# Altium footprint library Connector_Molex.PcbLib: 815 footprints (part 16 of 51)
Each footprint in its own frame and in the unit in brackets; x right, y up, seen from the top. Pads: shape width x height; smd on the part's side, far side on the other; paste and mask are expansions set on the pad; w line width, h text height; cw(c..) or ccw(c..) is an arc to the next point about the centre after c.
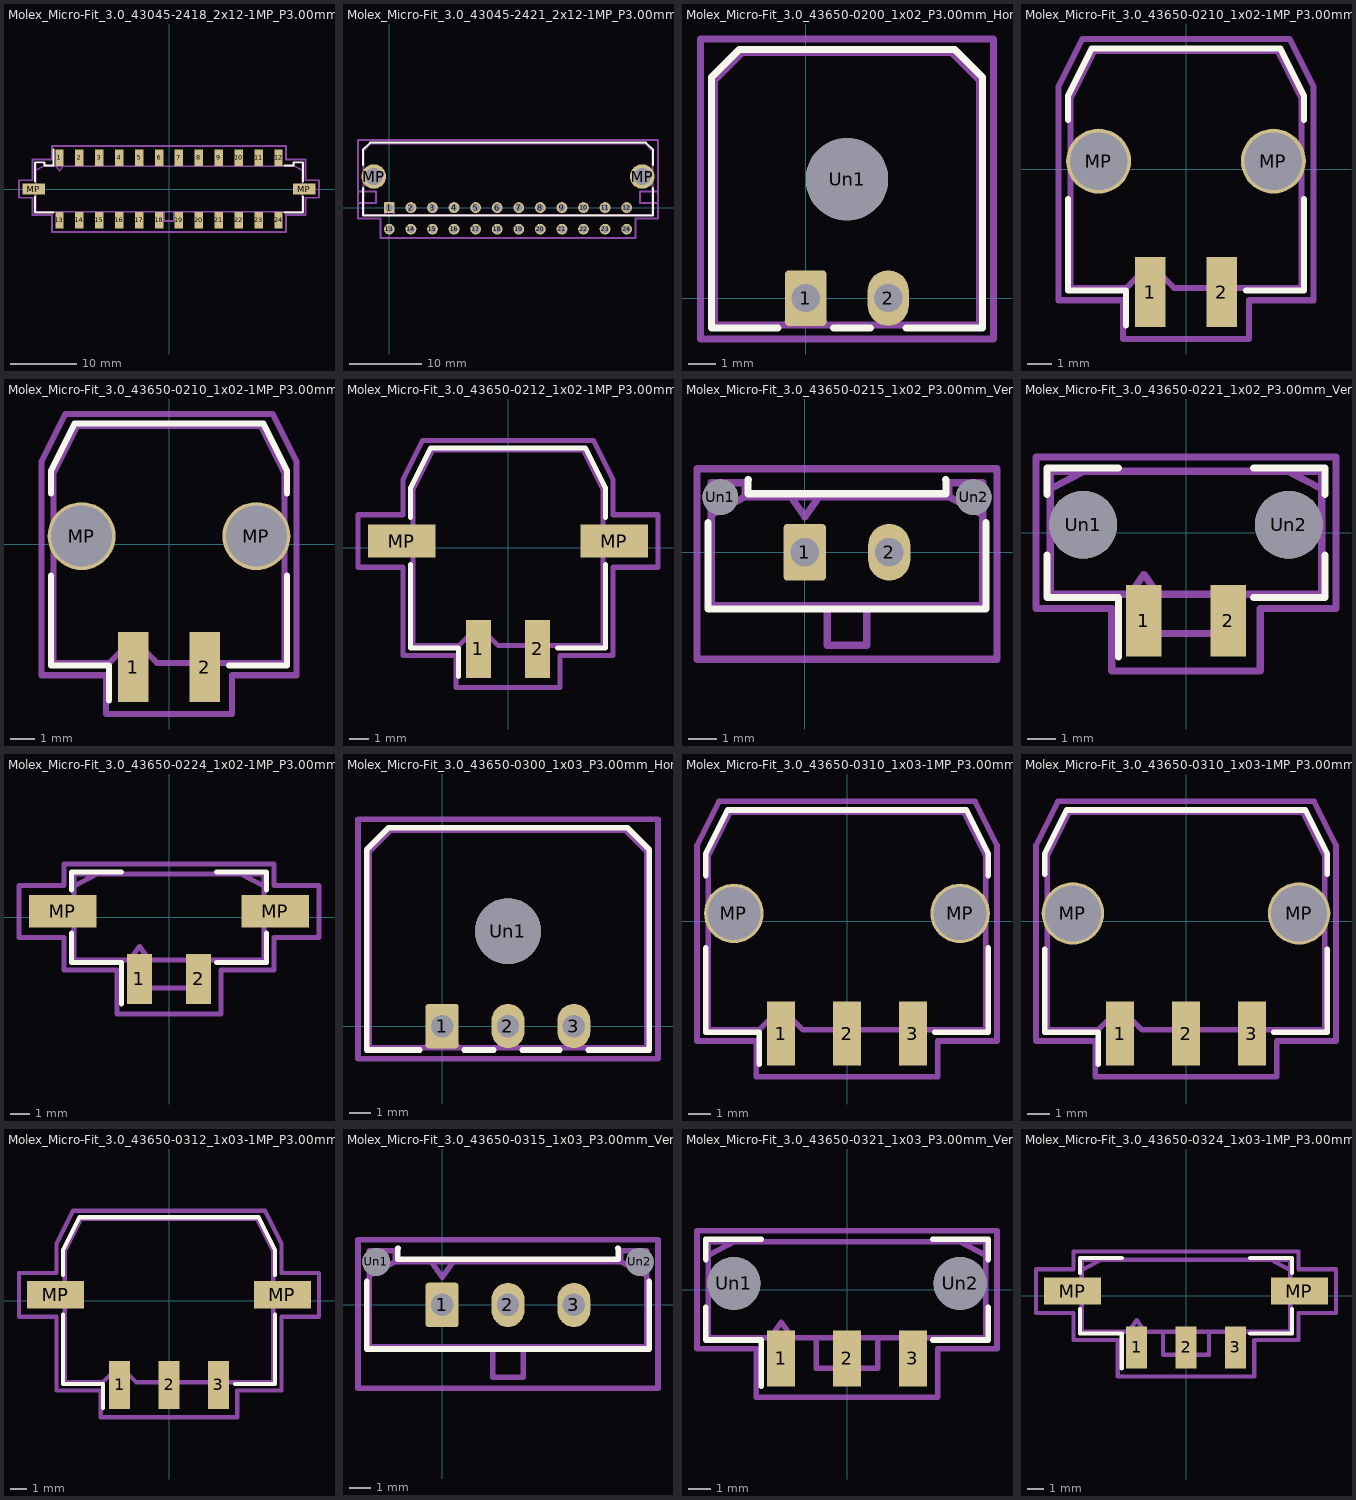
[diagram p15: the footprints below, top view; thin cyan lines are the x and y axes]

## Molex_Micro-Fit_3.0_43045-2418_2x12-1MP_P3.00mm_Vertical [mm]
pads (26):
  rect 1.27x2.54 smd: 1(-16.5,4.7) 2(-13.5,4.7) 3(-10.5,4.7) 4(-7.5,4.7) 5(-4.5,4.7) 6(-1.5,4.7) 7(1.5,4.7) 8(4.5,4.7) 9(7.5,4.7) 10(10.5,4.7) 11(13.5,4.7) 12(16.5,4.7) 13(-16.5,-4.7) 14(-13.5,-4.7) 15(-10.5,-4.7) 16(-7.5,-4.7) 17(-4.5,-4.7) 18(-1.5,-4.7) 19(1.5,-4.7) 20(4.5,-4.7) 21(7.5,-4.7) 22(10.5,-4.7) 23(13.5,-4.7) 24(16.5,-4.7)
  rect 3.43x1.65 smd: MP(-20.385,0) MP(20.385,0)
F.SilkS:
  lines w0.254: -20.185,-1.085 -20.185,-3.54 -17.395,-3.54 ; -20.185,1.085 -20.185,4.05 -18.765,4.05 -18.765,3.55 -17.395,3.55 -17.395,5.97 ; 17.395,-3.54 20.185,-3.54 20.185,-1.085 ; 17.395,3.55 18.765,3.55 18.765,4.05 20.185,4.05 20.185,1.085
Top Assembly:
  lines w0.254: -20.075,2.81 -18.875,3.44 ; -17,3.44 -16.5,2.733 -16,3.44 ; -0.7,-3.43 -0.7,-4.83 0.7,-4.83 0.7,-3.43 ; 20.075,2.81 18.875,3.44 ; -18.875,3.44 18.875,3.44 ; -18.875,3.44 -18.875,3.94 -20.075,3.94 -20.075,-3.43 20.075,-3.43 20.075,3.94 18.875,3.94 18.875,3.44
  text "'.Designator'" at -4.047,-3.57 h1
Top Courtyard:
  lines w0.254: -22.6,-1.33 -20.58,-1.33 -20.58,-3.93 -17.64,-3.93 -17.64,-6.47 0,-6.47 17.64,-6.47 17.64,-3.93 20.58,-3.93 20.58,-1.33 22.6,-1.33 22.6,1.33 20.58,1.33 20.58,4.44 17.64,4.44 17.64,6.47 0,6.47 -17.64,6.47 -17.64,4.44 -20.58,4.44 -20.58,1.33 -22.6,1.33 -22.6,-1.33
Top Designator:
  text ".Designator" at -7.618,-0.508 h1.52

## Molex_Micro-Fit_3.0_43045-2421_2x12-1MP_P3.00mm_Horizontal [mm]
pads (26):
  rrect17% 1.5x1.5 hole 1.02: 1(0,0)
  round 1.5 hole 1.02: 2(3,0) 3(6,0) 4(9,0) 5(12,0) 6(15,0) 7(18,0) 8(21,0) 9(24,0) 10(27,0) 11(30,0) 12(33,0) 13(0,-3) 14(3,-3) 15(6,-3) 16(9,-3) 17(12,-3) 18(15,-3) 19(18,-3) 20(21,-3) 21(24,-3) 22(27,-3) 23(30,-3) 24(33,-3)
  round 3.41 hole 2.41: MP(-2.15,4.32) MP(35.15,4.32)
F.SilkS:
  lines w0.254: -3.685,2.725 -3.685,-1.1 36.685,-1.1 36.685,2.725 ; -3.685,5.915 -3.685,8.03 -2.685,9.03 35.685,9.03 36.685,8.03 36.685,5.915
Top Assembly:
  lines w0.254: -0.75,-0.99 0,0 0.75,-0.99 ; -3.575,-0.99 36.575,-0.99 36.575,7.92 35.575,8.92 -2.575,8.92 -3.575,7.92 -3.575,-0.99
  text "'.Designator'" at 12.453,7.38 h1
Top Courtyard:
  lines w0.254: -4.36,-1.5 -1.25,-1.5 -1.25,-4.25 34.25,-4.25 34.25,-1.5 37.36,-1.5 37.36,9.42 -4.36,9.42 -4.36,-1.5
Top Designator:
  text ".Designator" at 8.882,2.077 h1.52
Dwgs.User:
  lines w0.254: -4.325,0.66 -1.875,0.66 -1.875,2.26 -4.325,2.26 -4.325,0.66 ; 34.875,0.66 37.325,0.66 37.325,2.26 34.875,2.26 34.875,0.66
Cmts.User:
  text "CU KEEPOUT" at 35,1.301 h0.25
  text "CU KEEPOUT" at -4.2,1.301 h0.25

## Molex_Micro-Fit_3.0_43650-0200_1x02_P3.00mm_Horizontal [mm]
pads (3):
  rrect17% 1.5x2.02 hole 1.02: 1(0,0)
  rrect100% 1.5x2.02 hole 1.02: 2(3,0)
  round 3 hole 3: Un1(1.5,4.32)
F.SilkS:
  lines w0.254: -1.01,-1.09 -3.435,-1.09 -3.435,8.03 -2.435,9.03 5.435,9.03 6.435,8.03 6.435,-1.09 3.652,-1.09 ; 1.01,-1.09 2.348,-1.09
Top Assembly:
  lines w0.254: -0.75,-0.98 0,0 0.75,-0.98 ; -3.325,-0.98 6.325,-0.98 6.325,7.92 5.325,8.92 -2.325,8.92 -3.325,7.92 -3.325,-0.98
  text "'.Designator'" at -2.547,7.38 h1
Top Courtyard:
  lines w0.254: -3.83,-1.49 6.83,-1.49 6.83,9.42 -3.83,9.42 -3.83,-1.49
Top Designator:
  text ".Designator" at -6.118,3.457 h1.52

## Molex_Micro-Fit_3.0_43650-0210_1x02-1MP_P3.00mm_Horizontal [mm]
pads (4):
  rect 1.27x2.92 smd: 1(-1.5,-5.12) 2(1.5,-5.12)
  round 2.71 hole 2.41: MP(-3.65,0.35) MP(3.65,0.35)
F.SilkS:
  lines w0.254: -4.935,-1.225 -4.935,-5.06 -2.505,-5.06 -2.505,-6.52 ; -4.935,2.075 -4.935,3.06 -3.935,5.06 0,5.06 3.935,5.06 4.935,3.06 4.935,2.075 ; 2.505,-5.06 4.935,-5.06 4.935,-1.225
Top Assembly:
  lines w0.254: -4.825,-4.95 -2.5,-4.95 -1.5,-3.95 -0.5,-4.95 0,-4.95 2.135,-4.95 4.825,-4.95 4.825,1.705 4.825,2.95 3.825,4.95 0,4.95 -3.825,4.95 -4.825,2.95 -4.825,1.705 -4.825,-4.95
  text "'.Designator'" at -4.047,3.41 h1
Top Courtyard:
  lines w0.254: -5.33,-5.46 -2.64,-5.46 -2.64,-7.08 0,-7.08 2.64,-7.08 2.64,-5.46 5.33,-5.46 5.33,2.21 5.33,3.45 4.33,5.45 0,5.45 -4.33,5.45 -5.33,3.45 -5.33,2.21 -5.33,-5.46
Top Designator:
  text ".Designator" at -7.618,-1.323 h1.52

## Molex_Micro-Fit_3.0_43650-0210_1x02-1MP_P3.00mm_Horizontal_PnP [mm]
pads (4):
  rect 1.27x2.92 smd: 1(-1.5,-5.12) 2(1.5,-5.12)
  round 2.84 hole 2.54: MP(-3.65,0.35) MP(3.65,0.35)
F.SilkS:
  lines w0.254: -4.935,-1.29 -4.935,-5.06 -2.505,-5.06 -2.505,-6.52 ; -4.935,2.14 -4.935,3.06 -3.935,5.06 0,5.06 3.935,5.06 4.935,3.06 4.935,2.14 ; 2.505,-5.06 4.935,-5.06 4.935,-1.29
Top Assembly:
  lines w0.254: -4.825,-4.95 -2.5,-4.95 -1.5,-3.95 -0.5,-4.95 0,-4.95 2.135,-4.95 4.825,-4.95 4.825,1.77 4.825,2.95 3.825,4.95 0,4.95 -3.825,4.95 -4.825,2.95 -4.825,1.77 -4.825,-4.95
  text "'.Designator'" at -4.047,3.41 h1
Top Courtyard:
  lines w0.254: -5.33,-5.46 -2.64,-5.46 -2.64,-7.08 0,-7.08 2.64,-7.08 2.64,-5.46 5.33,-5.46 5.33,2.27 5.33,3.45 4.33,5.45 0,5.45 -4.33,5.45 -5.33,3.45 -5.33,2.27 -5.33,-5.46
Top Designator:
  text ".Designator" at -7.618,-1.323 h1.52

## Molex_Micro-Fit_3.0_43650-0212_1x02-1MP_P3.00mm_Horizontal [mm]
pads (4):
  rect 1.27x2.92 smd: 1(-1.5,-5.12) 2(1.5,-5.12)
  rect 3.43x1.65 smd: MP(-5.385,0.35) MP(5.385,0.35)
F.SilkS:
  lines w0.254: -4.935,-0.845 -4.935,-5.06 -2.505,-5.06 -2.505,-6.52 ; -4.935,1.545 -4.935,3.06 -3.935,5.06 0,5.06 3.935,5.06 4.935,3.06 4.935,1.545 ; 2.505,-5.06 4.935,-5.06 4.935,-0.845
Top Assembly:
  lines w0.254: -4.825,-4.95 -2.5,-4.95 -1.5,-3.95 -0.5,-4.95 0,-4.95 2.135,-4.95 4.825,-4.95 4.825,1.175 4.825,2.95 3.825,4.95 0,4.95 -3.825,4.95 -4.825,2.95 -4.825,1.175 -4.825,-4.95
  text "'.Designator'" at -4.047,3.41 h1
Top Courtyard:
  lines w0.254: -7.6,-0.98 -5.33,-0.98 -5.33,-5.46 -2.64,-5.46 -2.64,-7.08 0,-7.08 2.64,-7.08 2.64,-5.46 5.33,-5.46 5.33,-0.98 7.6,-0.98 7.6,1.68 5.33,1.68 5.33,3.45 4.33,5.45 0,5.45 -4.33,5.45 -5.33,3.45 -5.33,1.68 -7.6,1.68 -7.6,-0.98
Top Designator:
  text ".Designator" at -7.618,-1.323 h1.52

## Molex_Micro-Fit_3.0_43650-0215_1x02_P3.00mm_Vertical [mm]
pads (4):
  rrect17% 1.5x2.02 hole 1.02: 1(0,0)
  rrect100% 1.5x2.02 hole 1.02: 2(3,0)
  round 1.27 hole 1.27: Un1(-3,1.96) Un2(6,1.96)
F.SilkS:
  lines w0.254: -3.435,1.065 -3.435,-2.01 6.435,-2.01 6.435,1.065 ; -1.995,2.58 -2.015,2.58 -2.015,2.08 5.015,2.08 5.015,2.58 4.995,2.58
Top Assembly:
  lines w0.254: -3.325,1.34 -2.125,1.97 ; -0.5,1.97 0,1.263 0.5,1.97 ; 0.8,-1.9 0.8,-3.3 2.2,-3.3 2.2,-1.9 ; 6.325,1.34 5.125,1.97 ; -2.125,1.97 5.125,1.97 ; -2.125,1.97 -2.125,2.47 -3.325,2.47 -3.325,-1.9 6.325,-1.9 6.325,2.47 5.125,2.47 5.125,1.97
  text "'.Designator'" at -2.547,-2.04 h1
Top Courtyard:
  lines w0.254: -3.83,-3.8 6.83,-3.8 6.83,2.97 -3.83,2.97 -3.83,-3.8
Top Designator:
  text ".Designator" at -6.118,-0.923 h1.52

## Molex_Micro-Fit_3.0_43650-0221_1x02_P3.00mm_Vertical [mm]
pads (4):
  rect 1.27x2.54 smd: 1(-1.5,-3.135) 2(1.5,-3.135)
  round 2.41 hole 2.41: Un1(-3.65,0.285) Un2(3.65,0.285)
F.SilkS:
  lines w0.254: -4.935,-0.8 -4.935,-2.295 -2.395,-2.295 -2.395,-4.405 ; -4.935,1.37 -4.935,2.295 -3.515,2.295 -2.395,2.295 ; 2.395,-2.295 4.935,-2.295 4.935,-0.8 ; 2.395,2.295 3.515,2.295 4.935,2.295 4.935,1.37
Top Assembly:
  lines w0.254: -4.825,1.555 -3.625,2.185 ; -2,-2.185 -1.5,-1.478 -1,-2.185 ; -1.4,-2.185 -1.4,-3.585 1.4,-3.585 1.4,-2.185 ; 4.825,1.555 3.625,2.185 ; -3.625,2.185 3.625,2.185 ; -3.625,2.185 -4.825,2.185 -4.825,-2.185 4.825,-2.185 4.825,2.185 3.625,2.185
  text "'.Designator'" at -4.047,-2.32 h1
Top Courtyard:
  lines w0.254: -5.33,-2.69 -2.64,-2.69 -2.64,-4.91 0,-4.91 2.64,-4.91 2.64,-2.69 5.33,-2.69 5.33,2.69 2.64,2.69 0,2.69 -2.64,2.69 -5.33,2.69 -5.33,-2.69
Top Designator:
  text ".Designator" at -7.618,-1.618 h1.52

## Molex_Micro-Fit_3.0_43650-0224_1x02-1MP_P3.00mm_Vertical [mm]
pads (4):
  rect 1.27x2.54 smd: 1(-1.5,-3.135) 2(1.5,-3.135)
  rect 3.43x1.65 smd: MP(-5.385,0.285) MP(5.385,0.285)
F.SilkS:
  lines w0.254: -4.935,-0.8 -4.935,-2.295 -2.395,-2.295 -2.395,-4.405 ; -4.935,1.37 -4.935,2.295 -3.515,2.295 -2.395,2.295 ; 2.395,-2.295 4.935,-2.295 4.935,-0.8 ; 2.395,2.295 3.515,2.295 4.935,2.295 4.935,1.37
Top Assembly:
  lines w0.254: -4.825,1.555 -3.625,2.185 ; -2,-2.185 -1.5,-1.478 -1,-2.185 ; -1.4,-2.185 -1.4,-3.585 1.4,-3.585 1.4,-2.185 ; 4.825,1.555 3.625,2.185 ; -3.625,2.185 3.625,2.185 ; -3.625,2.185 -4.825,2.185 -4.825,-2.185 4.825,-2.185 4.825,2.185 3.625,2.185
  text "'.Designator'" at -4.047,-2.32 h1
Top Courtyard:
  lines w0.254: -7.6,-1.04 -5.33,-1.04 -5.33,-2.69 -2.64,-2.69 -2.64,-4.91 0,-4.91 2.64,-4.91 2.64,-2.69 5.33,-2.69 5.33,-1.04 7.6,-1.04 7.6,1.61 5.33,1.61 5.33,2.69 2.64,2.69 0,2.69 -2.64,2.69 -5.33,2.69 -5.33,1.61 -7.6,1.61 -7.6,-1.04
Top Designator:
  text ".Designator" at -7.618,-1.618 h1.52

## Molex_Micro-Fit_3.0_43650-0300_1x03_P3.00mm_Horizontal [mm]
pads (4):
  rrect17% 1.5x2.02 hole 1.02: 1(0,0)
  rrect100% 1.5x2.02 hole 1.02: 2(3,0) 3(6,0)
  round 3 hole 3: Un1(3,4.32)
F.SilkS:
  lines w0.254: -1.01,-1.09 -3.435,-1.09 -3.435,8.03 -2.435,9.03 8.435,9.03 9.435,8.03 9.435,-1.09 6.652,-1.09 ; 1.01,-1.09 2.348,-1.09 ; 3.652,-1.09 5.348,-1.09
Top Assembly:
  lines w0.254: -0.75,-0.98 0,0 0.75,-0.98 ; -3.325,-0.98 9.325,-0.98 9.325,7.92 8.325,8.92 -2.325,8.92 -3.325,7.92 -3.325,-0.98
  text "'.Designator'" at -1.047,7.38 h1
Top Courtyard:
  lines w0.254: -3.83,-1.49 9.83,-1.49 9.83,9.42 -3.83,9.42 -3.83,-1.49
Top Designator:
  text ".Designator" at -4.618,3.457 h1.52

## Molex_Micro-Fit_3.0_43650-0310_1x03-1MP_P3.00mm_Horizontal [mm]
pads (5):
  rect 1.27x2.92 smd: 1(-3,-5.12) 2(0,-5.12) 3(3,-5.12)
  round 2.71 hole 2.41: MP(-5.15,0.35) MP(5.15,0.35)
F.SilkS:
  lines w0.254: -6.435,-1.225 -6.435,-5.06 -4.005,-5.06 -4.005,-6.52 ; -6.435,2.075 -6.435,3.06 -5.435,5.06 0,5.06 5.435,5.06 6.435,3.06 6.435,2.075 ; 4.005,-5.06 6.435,-5.06 6.435,-1.225
Top Assembly:
  lines w0.254: -6.325,-4.95 -4,-4.95 -3,-3.95 -2,-4.95 0,-4.95 3.635,-4.95 6.325,-4.95 6.325,1.705 6.325,2.95 5.325,4.95 0,4.95 -5.325,4.95 -6.325,2.95 -6.325,1.705 -6.325,-4.95
  text "'.Designator'" at -4.047,3.41 h1
Top Courtyard:
  lines w0.254: -6.83,-5.46 -4.14,-5.46 -4.14,-7.08 0,-7.08 4.14,-7.08 4.14,-5.46 6.83,-5.46 6.83,2.21 6.83,3.45 5.83,5.45 0,5.45 -5.83,5.45 -6.83,3.45 -6.83,2.21 -6.83,-5.46
Top Designator:
  text ".Designator" at -7.618,-1.323 h1.52

## Molex_Micro-Fit_3.0_43650-0310_1x03-1MP_P3.00mm_Horizontal_PnP [mm]
pads (5):
  rect 1.27x2.92 smd: 1(-3,-5.12) 2(0,-5.12) 3(3,-5.12)
  round 2.84 hole 2.54: MP(-5.15,0.35) MP(5.15,0.35)
F.SilkS:
  lines w0.254: -6.435,-1.29 -6.435,-5.06 -4.005,-5.06 -4.005,-6.52 ; -6.435,2.14 -6.435,3.06 -5.435,5.06 0,5.06 5.435,5.06 6.435,3.06 6.435,2.14 ; 4.005,-5.06 6.435,-5.06 6.435,-1.29
Top Assembly:
  lines w0.254: -6.325,-4.95 -4,-4.95 -3,-3.95 -2,-4.95 0,-4.95 3.635,-4.95 6.325,-4.95 6.325,1.77 6.325,2.95 5.325,4.95 0,4.95 -5.325,4.95 -6.325,2.95 -6.325,1.77 -6.325,-4.95
  text "'.Designator'" at -4.047,3.41 h1
Top Courtyard:
  lines w0.254: -6.83,-5.46 -4.14,-5.46 -4.14,-7.08 0,-7.08 4.14,-7.08 4.14,-5.46 6.83,-5.46 6.83,2.27 6.83,3.45 5.83,5.45 0,5.45 -5.83,5.45 -6.83,3.45 -6.83,2.27 -6.83,-5.46
Top Designator:
  text ".Designator" at -7.618,-1.323 h1.52

## Molex_Micro-Fit_3.0_43650-0312_1x03-1MP_P3.00mm_Horizontal [mm]
pads (5):
  rect 1.27x2.92 smd: 1(-3,-5.12) 2(0,-5.12) 3(3,-5.12)
  rect 3.43x1.65 smd: MP(-6.885,0.35) MP(6.885,0.35)
F.SilkS:
  lines w0.254: -6.435,-0.845 -6.435,-5.06 -4.005,-5.06 -4.005,-6.52 ; -6.435,1.545 -6.435,3.06 -5.435,5.06 0,5.06 5.435,5.06 6.435,3.06 6.435,1.545 ; 4.005,-5.06 6.435,-5.06 6.435,-0.845
Top Assembly:
  lines w0.254: -6.325,-4.95 -4,-4.95 -3,-3.95 -2,-4.95 0,-4.95 3.635,-4.95 6.325,-4.95 6.325,1.175 6.325,2.95 5.325,4.95 0,4.95 -5.325,4.95 -6.325,2.95 -6.325,1.175 -6.325,-4.95
  text "'.Designator'" at -4.047,3.41 h1
Top Courtyard:
  lines w0.254: -9.1,-0.98 -6.83,-0.98 -6.83,-5.46 -4.14,-5.46 -4.14,-7.08 0,-7.08 4.14,-7.08 4.14,-5.46 6.83,-5.46 6.83,-0.98 9.1,-0.98 9.1,1.68 6.83,1.68 6.83,3.45 5.83,5.45 0,5.45 -5.83,5.45 -6.83,3.45 -6.83,1.68 -9.1,1.68 -9.1,-0.98
Top Designator:
  text ".Designator" at -7.618,-1.323 h1.52

## Molex_Micro-Fit_3.0_43650-0315_1x03_P3.00mm_Vertical [mm]
pads (5):
  rrect17% 1.5x2.02 hole 1.02: 1(0,0)
  rrect100% 1.5x2.02 hole 1.02: 2(3,0) 3(6,0)
  round 1.27 hole 1.27: Un1(-3,1.96) Un2(9,1.96)
F.SilkS:
  lines w0.254: -3.435,1.065 -3.435,-2.01 9.435,-2.01 9.435,1.065 ; -1.995,2.58 -2.015,2.58 -2.015,2.08 8.015,2.08 8.015,2.58 7.995,2.58
Top Assembly:
  lines w0.254: -3.325,1.34 -2.125,1.97 ; -0.5,1.97 0,1.263 0.5,1.97 ; 2.3,-1.9 2.3,-3.3 3.7,-3.3 3.7,-1.9 ; 9.325,1.34 8.125,1.97 ; -2.125,1.97 8.125,1.97 ; -2.125,1.97 -2.125,2.47 -3.325,2.47 -3.325,-1.9 9.325,-1.9 9.325,2.47 8.125,2.47 8.125,1.97
  text "'.Designator'" at -1.047,-2.04 h1
Top Courtyard:
  lines w0.254: -3.83,-3.8 9.83,-3.8 9.83,2.97 -3.83,2.97 -3.83,-3.8
Top Designator:
  text ".Designator" at -4.618,-0.923 h1.52

## Molex_Micro-Fit_3.0_43650-0321_1x03_P3.00mm_Vertical [mm]
pads (5):
  rect 1.27x2.54 smd: 1(-3,-3.135) 2(0,-3.135) 3(3,-3.135)
  round 2.41 hole 2.41: Un1(-5.15,0.285) Un2(5.15,0.285)
F.SilkS:
  lines w0.254: -6.435,-0.8 -6.435,-2.295 -3.895,-2.295 -3.895,-4.405 ; -6.435,1.37 -6.435,2.295 -5.015,2.295 -3.895,2.295 ; 3.895,-2.295 6.435,-2.295 6.435,-0.8 ; 3.895,2.295 5.015,2.295 6.435,2.295 6.435,1.37
Top Assembly:
  lines w0.254: -6.325,1.555 -5.125,2.185 ; -3.5,-2.185 -3,-1.478 -2.5,-2.185 ; -1.4,-2.185 -1.4,-3.585 1.4,-3.585 1.4,-2.185 ; 6.325,1.555 5.125,2.185 ; -5.125,2.185 5.125,2.185 ; -5.125,2.185 -6.325,2.185 -6.325,-2.185 6.325,-2.185 6.325,2.185 5.125,2.185
  text "'.Designator'" at -4.047,-2.32 h1
Top Courtyard:
  lines w0.254: -6.83,-2.69 -4.14,-2.69 -4.14,-4.91 0,-4.91 4.14,-4.91 4.14,-2.69 6.83,-2.69 6.83,2.69 4.14,2.69 0,2.69 -4.14,2.69 -6.83,2.69 -6.83,-2.69
Top Designator:
  text ".Designator" at -7.618,-1.618 h1.52

## Molex_Micro-Fit_3.0_43650-0324_1x03-1MP_P3.00mm_Vertical [mm]
pads (5):
  rect 1.27x2.54 smd: 1(-3,-3.135) 2(0,-3.135) 3(3,-3.135)
  rect 3.43x1.65 smd: MP(-6.885,0.285) MP(6.885,0.285)
F.SilkS:
  lines w0.254: -6.435,-0.8 -6.435,-2.295 -3.895,-2.295 -3.895,-4.405 ; -6.435,1.37 -6.435,2.295 -5.015,2.295 -3.895,2.295 ; 3.895,-2.295 6.435,-2.295 6.435,-0.8 ; 3.895,2.295 5.015,2.295 6.435,2.295 6.435,1.37
Top Assembly:
  lines w0.254: -6.325,1.555 -5.125,2.185 ; -3.5,-2.185 -3,-1.478 -2.5,-2.185 ; -1.4,-2.185 -1.4,-3.585 1.4,-3.585 1.4,-2.185 ; 6.325,1.555 5.125,2.185 ; -5.125,2.185 5.125,2.185 ; -5.125,2.185 -6.325,2.185 -6.325,-2.185 6.325,-2.185 6.325,2.185 5.125,2.185
  text "'.Designator'" at -4.047,-2.32 h1
Top Courtyard:
  lines w0.254: -9.1,-1.04 -6.83,-1.04 -6.83,-2.69 -4.14,-2.69 -4.14,-4.91 0,-4.91 4.14,-4.91 4.14,-2.69 6.83,-2.69 6.83,-1.04 9.1,-1.04 9.1,1.61 6.83,1.61 6.83,2.69 4.14,2.69 0,2.69 -4.14,2.69 -6.83,2.69 -6.83,1.61 -9.1,1.61 -9.1,-1.04
Top Designator:
  text ".Designator" at -7.618,-1.618 h1.52